# Altium integrated library My_Library_Tact_Switch.IntLib: 1 symbol
Pins are listed as number, name and electrical type; pins without a type are passive.

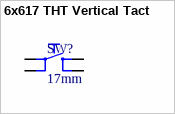
[diagram p0: symbol 6x617 THT Vertical Tact]

## 6x617 THT Vertical Tact
designator SW?, comment 17mm
Black Button Tactile Switch, SPST-NO 50 mA @ 12 Vdc; Pitch: 17mm
footprint 6x6x17_THT (6x6x5 tactile switch. Height=5mm)
pins: 1, 2, 3, 4